# Altium schematic symbol library ADM7160ACPZN1.8-R2.Schlib: 1 symbol
Pins are listed as number, name and electrical type; pins without a type are passive.

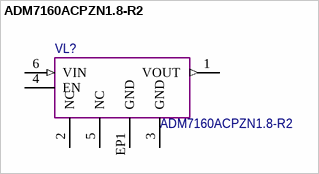
[diagram p0: symbol ADM7160ACPZN1.8-R2]

## ADM7160ACPZN1.8-R2
designator VL?
pins: 1 VOUT (out), 2 NC, 3 GND, 4 EN, 5 NC, 6 VIN (in), EP1 GND